# Altium footprint library PcbLib1.PcbLib: 22 footprints (part 1 of 2)
Each footprint in its own frame and in the unit in brackets; x right, y up, seen from the top. Pads: shape width x height; smd on the part's side, far side on the other; paste and mask are expansions set on the pad; w line width, h text height; cw(c..) or ccw(c..) is an arc to the next point about the centre after c.
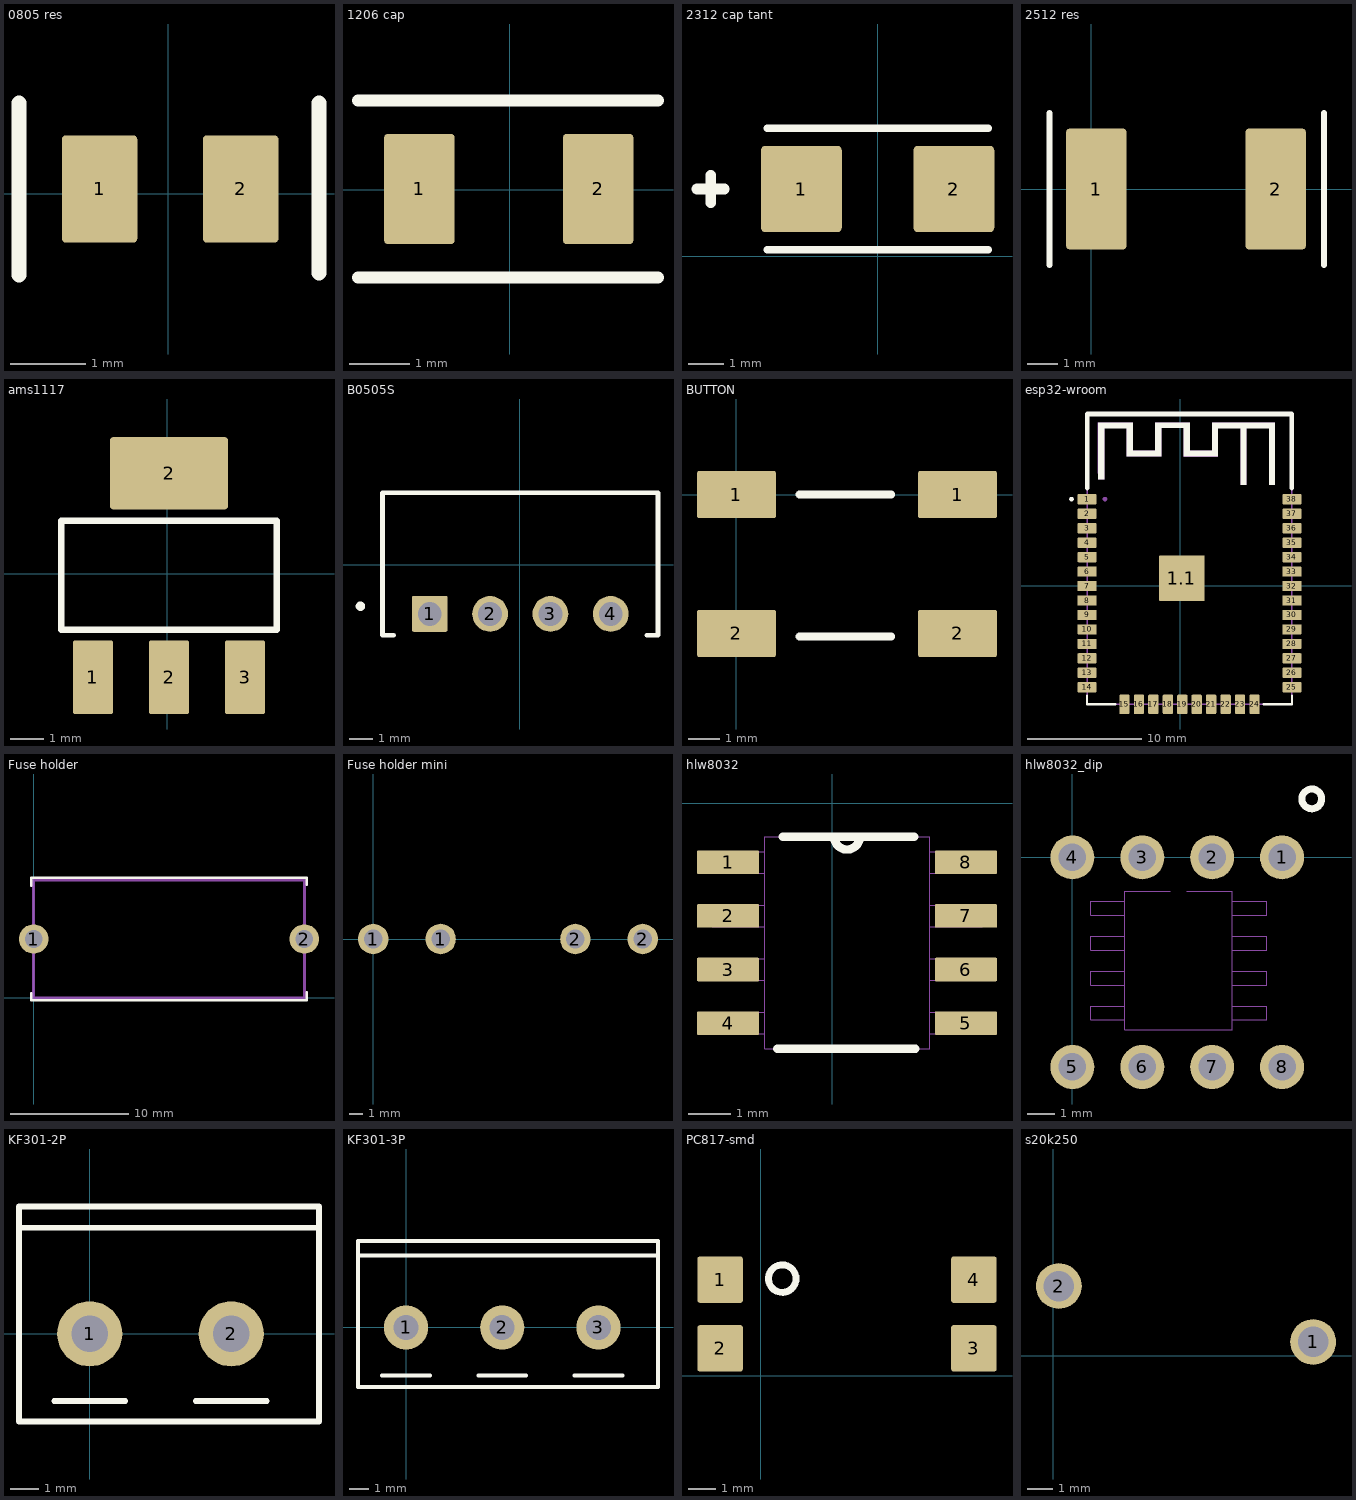
[diagram p0: the footprints below, top view; thin cyan lines are the x and y axes]

## 0805 res [mm]
height 1.6
pads (2):
  rrect10% 1x1.42 smd: 1(-0.908,0.063) 2(0.962,0.063)
Top Overlay:
  lines w0.2: -1.975,-1.075 -1.975,1.2 ; 2,-1.05 2,1.2
3D body: height 1.6, standoff 0, extent -1.025,-0.525 0.975,0.675

## 1206 cap [mm]
height 1.6
pads (2):
  rrect10% 1.16x1.82 smd: 1(-1.487,0.013) 2(1.463,0.013)
Top Overlay:
  lines w0.2: -2.5,-1.45 2.45,-1.45 ; -2.5,1.475 2.45,1.475
3D body: height 1.6, standoff 0, extent -1.712,-0.862 1.663,0.913

## 2312 cap tant [mil]
height 102.36
pads (2):
  rrect10% 89x95 smd: 1(-84,74.02) 2(84,74.02)
Top Overlay:
  lines w7.87: -122,7.02 122,7.02 ; -122,141.02 122,141.02
  lines w11.81: -199,74.02 -169,74.02 ; -184,59.02 -184,89.02
3D body: height 102.36, standoff 0, extent -118.11,9.84 118.11,137.8

## 2512 res [mm]
pads (2):
  rrect10% 2x4 smd: 1(0.175,0) 2(6.125,0)
Top Overlay:
  lines w0.2: -1.375,-2.525 -1.375,2.525 ; 7.725,-2.525 7.725,2.525
3D body: height 1.6, standoff 0, extent 0,-1.6 6.3,1.6

## ams1117 [mil]
height 70.87
pads (4):
  rrect10% 48x88 smd: 1(-88.68,-123.57) 2(2.32,-123.57) 3(93.32,-123.57)
  rrect10% 141.73x86.61 smd: 2(2.32,120.43)
Top Overlay:
  lines w7.87: -126.68,-66.57 -126.68,63.43 131.32,63.43 131.32,-66.57 -126.68,-66.57
3D body: height 39.37, standoff 0, extent -60.04,60.53 65.95,134.35
3D body: height 39.37, standoff 0, extent 78.74,-135.82 112.21,-62.99
3D body: height 39.37, standoff 0, extent -14.76,-135.82 18.7,-62.99
3D body: height 39.37, standoff 0, extent -106.3,-135.82 -72.83,-62.99
3D body: height 78.74, standoff 0, extent -127.95,-68.9 127.95,59.06

## B0505S [mm]
height 10
pads (4):
  rrect10% 1.508x1.508 hole 1: 1(-3.785,-2.075)
  round 1.508 hole 1: 2(-1.245,-2.075) 3(1.295,-2.075) 4(3.835,-2.075)
Top Overlay:
  circle w0.2: c-6.706,-1.753 r0.1
  lines w0.2: -5.3,-2.975 -5.775,-2.975 -5.775,3.025 5.825,3.025 5.825,-2.975 5.35,-2.975
3D body: height 10, standoff 0, extent -5.787,-2.75 5.825,2.825

## BUTTON [mm]
height 2.5
pads (4):
  rrect10% 2.5x1.5 smd: 1(0,0) 1(7,0) 2(0,-4.4) 2(7,-4.4)
Top Overlay:
  lines w0.25: 2,-4.5 4.9,-4.5 ; 2,0 4.9,0
3D body: height 2.6, standoff 0.1, extent 1.987,-3.722 4.975,-0.728
3D body: height 2, standoff 0.1, extent 0.35,-5.35 6.6,0.9

## esp32-wroom [mm]
height 3.3
pads (39):
  rrect22% 1.7x0.9 smd: 1(-8.208,7.574) 2(-8.208,6.304) 3(-8.208,5.034) 4(-8.208,3.764) 5(-8.208,2.494) 6(-8.208,1.224) 7(-8.208,-0.046) 8(-8.208,-1.316) 9(-8.208,-2.586) 10(-8.208,-3.856) 11(-8.208,-5.126) 12(-8.208,-6.396) 13(-8.208,-7.666) 14(-8.208,-8.936) 25(9.792,-8.936) 26(9.792,-7.666) 27(9.792,-6.396) 28(9.792,-5.126) 29(9.792,-3.856) 30(9.792,-2.586) 31(9.792,-1.316) 32(9.792,-0.046) 33(9.792,1.224) 34(9.792,2.494) 35(9.792,3.764) 36(9.792,5.034) 37(9.792,6.304) 38(9.792,7.574)
  rrect3% 4x4 smd: 1.1(0.127,0.635)
  rrect22% 0.9x1.7 smd: 15(-4.923,-10.436) 16(-3.653,-10.436) 17(-2.383,-10.436) 18(-1.113,-10.436) 19(0.157,-10.436) 20(1.427,-10.436) 21(2.697,-10.436) 22(3.967,-10.436) 23(5.237,-10.436) 24(6.507,-10.436)
Top Overlay:
  circle w0.2: c-9.573,7.594 r0.1
  region: -6.708,9.848 -7.23,9.848 -7.23,14.319 -6.708,14.319
  region: -4.208,13.835 -7.217,13.835 -7.217,14.319 -4.208,14.319
  region: -4.208,11.366 -4.73,11.366 -4.73,13.819 -4.208,13.819
  region: -1.708,11.337 -4.716,11.337 -4.716,11.819 -1.708,11.819
  region: -1.708,11.36 -2.218,11.36 -2.218,13.819 -1.708,13.819
  region: 0.792,13.868 -2.218,13.868 -2.218,14.319 0.792,14.319
  region: 0.792,11.368 0.29,11.368 0.29,13.819 0.792,13.819
  region: 3.292,11.369 0.29,11.369 0.29,11.819 3.292,11.819
  region: 3.292,11.372 2.801,11.372 2.801,13.819 3.292,13.819
  region: 8.292,13.833 2.804,13.833 2.804,14.319 8.292,14.319
  region: 8.292,9.349 7.813,9.349 7.813,14.319 8.292,14.319
  region: 5.792,9.35 5.306,9.35 5.306,14.319 5.792,14.319
  region: 8.292,8.845 7.811,8.845 7.811,9.319 8.292,9.319
  region: 5.792,8.836 5.3,8.836 5.3,9.319 5.792,9.319
  region: -6.708,9.344 -7.228,9.344 -7.228,9.819 -6.708,9.819
  region: 3.292,12.873 2.8,12.873 2.8,14.319 3.292,14.319
  lines w0.2: -8.208,-9.681 -8.208,-10.431 -5.708,-10.431 ; 7.292,-10.431 9.792,-10.431 9.792,-9.681
  lines w0.4: -8.208,8.569 -8.208,15.069 9.792,15.069 9.792,8.569
Mechanical 13:
  circle w0.2: c-6.633,7.594 r0.1
  region: -6.708,9.869 -7.246,9.869 -7.246,14.319 -6.708,14.319
  region: -4.208,13.893 -7.249,13.893 -7.249,14.319 -4.208,14.319
  region: -4.208,11.359 -4.726,11.359 -4.726,13.819 -4.208,13.819
  region: -1.708,11.353 -4.724,11.353 -4.724,11.819 -1.708,11.819
  region: -1.708,11.361 -2.218,11.361 -2.218,13.819 -1.708,13.819
  region: 0.792,13.85 -2.214,13.85 -2.214,14.319 0.792,14.319
  region: 0.792,11.359 0.29,11.359 0.29,13.819 0.792,13.819
  region: 3.292,11.331 0.291,11.331 0.291,11.819 3.292,11.819
  region: 3.292,11.365 2.8,11.365 2.8,13.819 3.292,13.819
  region: 8.292,13.86 2.807,13.86 2.807,14.319 8.292,14.319
  region: 8.292,9.356 7.818,9.356 7.818,14.319 8.292,14.319
  region: 5.792,9.352 5.307,9.352 5.307,14.319 5.792,14.319
  region: 8.292,8.848 7.814,8.848 7.814,9.319 8.292,9.319
  region: 5.792,8.867 5.315,8.867 5.315,9.319 5.792,9.319
  region: -6.708,9.352 -7.235,9.352 -7.235,9.819 -6.708,9.819
  region: 3.292,12.87 2.8,12.87 2.8,14.319 3.292,14.319
  lines w0.127: -8.208,-10.436 -8.208,15.064 9.792,15.064 9.792,-10.436 -8.208,-10.436
3D body: height 1, standoff 0, extent -8.398,-10.269 9.902,15.258
3D body: height 2, standoff 0, extent -7.239,-9.652 8.382,7.62

## Fuse holder [mm]
pads (2):
  round 2.5 hole 1.5: 1(0,5) 2(23,5)
Top Overlay:
  lines w0.2: -0.2,0.4 -0.2,-0.2 23.2,-0.2 23.2,0.5 ; -0.2,9.5 -0.2,10.2 23.2,10.2 23.2,9.6
Mechanical 13:
  lines w0.254: 0,0 23,0 23,10 0,10 0,0
3D body: height 10, standoff 4, extent -1.75,0.75 24.95,9.75
3D body: height 5, standoff 0, extent 0,0 23,10

## Fuse holder mini [mm]
height 12
pads (4):
  round 2.3 hole 1.4: 1(0,0) 1(5.08,0) 2(15.24,0) 2(20.32,0)
3D body: height 10, standoff 0, extent 14.99,-2.75 20.49,2.75
3D body: height 10, standoff 0, extent -0.25,-2.75 5.25,2.75
3D body: height 10.5, standoff 5.5, extent 0,-2.497 20,2.497

## hlw8032 [mil]
height 59.06
pads (8):
  rrect10% 58x22 smd: 1(-97.18,-55.43) 2(-97.18,-105.43) 3(-97.18,-155.43) 4(-97.18,-205.43) 5(124.82,-205.43) 6(124.82,-155.43) 7(124.82,-105.43) 8(124.82,-55.43)
Top Overlay:
  lines w7.87: -51.18,-229.43 77.76,-229.33 ; -46.26,-31.43 1.82,-31.43 ; 76.77,-31.43 25.82,-31.43 ; 1.82,-31.43 ccw(c13.82,-31.43) 25.82,-31.43 ; 1.82,-31.43 25.82,-31.43
Mechanical 13:
  lines w0: 1.82,-31.43 ccw(c13.82,-31.43) 25.82,-31.43 ; 1.82,-31.43 -63.18,-31.43 -63.18,-229.43 90.82,-229.43 90.82,-31.43 25.82,-31.43 ; 1.82,-31.43 25.82,-31.43 ; -112.18,-215.43 -63.18,-215.43 -63.18,-195.43 -112.18,-195.43 -112.18,-215.43 ; -112.18,-165.43 -63.18,-165.43 -63.18,-145.43 -112.18,-145.43 -112.18,-165.43 ; -112.18,-115.43 -63.18,-115.43 -63.18,-95.43 -112.18,-95.43 -112.18,-115.43 ; -112.18,-65.43 -63.18,-65.43 -63.18,-45.43 -112.18,-45.43 -112.18,-65.43 ; 90.82,-215.43 139.82,-215.43 139.82,-195.43 90.82,-195.43 90.82,-215.43 ; 90.82,-165.43 139.82,-165.43 139.82,-145.43 90.82,-145.43 90.82,-165.43 ; 90.82,-115.43 139.82,-115.43 139.82,-95.43 90.82,-95.43 90.82,-115.43 ; 90.82,-65.43 139.82,-65.43 139.82,-45.43 90.82,-45.43 90.82,-65.43
3D body: height 59.06, standoff 0, extent -63.98,-230.31 90.55,-32.48

## hlw8032_dip [mm]
height 7
pads (8):
  round 1.6 hole 1: 1(7.62,0) 2(5.08,0) 3(2.54,0) 4(0,0) 5(0,-7.62) 6(2.54,-7.62) 7(5.08,-7.62) 8(7.62,-7.62)
Top Overlay:
  circle w0.254: c8.7,2.125 r0.359
Mechanical 13:
  lines w0: 3.556,-1.238 1.905,-1.238 1.905,-6.268 5.817,-6.268 5.817,-1.238 4.166,-1.238 ; 0.661,-5.912 0.661,-5.404 1.905,-5.404 1.905,-5.912 0.661,-5.912 ; 0.661,-4.642 0.661,-4.134 1.905,-4.134 1.905,-4.642 0.661,-4.642 ; 0.661,-3.372 0.661,-2.864 1.905,-2.864 1.905,-3.372 0.661,-3.372 ; 0.661,-2.102 0.661,-1.594 1.905,-1.594 1.905,-2.102 0.661,-2.102 ; 5.817,-5.912 5.817,-5.404 7.061,-5.404 7.061,-5.912 5.817,-5.912 ; 5.817,-4.642 5.817,-4.134 7.061,-4.134 7.061,-4.642 5.817,-4.642 ; 5.817,-3.372 5.817,-2.864 7.061,-2.864 7.061,-3.372 5.817,-3.372 ; 5.817,-2.102 5.817,-1.594 7.061,-1.594 7.061,-2.102 5.817,-2.102
3D body: height 2.1, standoff 0.5, extent -1.27,-8.89 8.89,1.27
3D body: height 4.1, standoff 2.6, extent 1.892,-6.265 5.817,-1.24

## KF301-2P [mm]
height 10
pads (2):
  round 2.3 hole 1.3: 1(0,0) 2(5,0)
Top Overlay:
  lines w0.2: -2.5,3.75 8.1,3.75 ; -1.25,-2.375 1.25,-2.375 ; 3.75,-2.375 6.25,-2.375 ; -2.5,-3.1 -2.5,4.5 8.1,4.5 8.1,-3.1 -2.5,-3.1
3D body: height 11, standoff 0, extent 3,-2 7,2
3D body: height 10, standoff 0, extent -2.5,-3.1 8.1,3.75
3D body: height 8, standoff 0, extent -2.5,3.75 8.1,4.5
3D body: height 11, standoff 0, extent -2,-2 2,2

## KF301-3P [mm]
height 10
pads (3):
  round 2.3 hole 1.3: 1(0,0) 2(5,0) 3(10,0)
Top Overlay:
  lines w0.2: -2.5,3.75 13.1,3.75 ; -1.25,-2.5 1.25,-2.5 ; 3.75,-2.5 6.25,-2.5 ; 8.75,-2.5 11.25,-2.5 ; -2.5,-3.1 -2.5,4.5 13.1,4.5 13.1,-3.1 -2.5,-3.1
3D body: height 8, standoff 0, extent -2.5,3.75 13.1,4.5
3D body: height 10, standoff 0, extent -2.5,-3.1 13.1,3.75
3D body: height 11, standoff 0, extent 8,-2 12,2
3D body: height 11, standoff 0, extent 3,-2 7,2
3D body: height 11, standoff 0, extent -2,-2 2,2

## PC817-smd [mm]
height 3.6
pads (4):
  rrect10% 1.68x1.71 smd: 1(-1.5,3.56) 2(-1.5,1.02) 3(7.89,1.02) 4(7.89,3.56)
Top Overlay:
  circle w0.254: c0.8,3.6 r0.51
3D body: height 3.5, standoff 0.1, extent 0,0 6.5,4.6

## s20k250 [mm]
height 24
pads (2):
  round 1.8 hole 1.2: 1(10.225,0.55) 2(0.225,2.75)
3D body: height 20.5, standoff 3.5, extent -3.6,0.4 13.4,2.9
3D body: height 10, standoff 0, extent -0.271,2.251 0.725,3.249
3D body: height 10, standoff 0, extent 9.729,0.051 10.725,1.049